# EAGLE library part AUDIOFX&AMP (library audioFX&Amp)
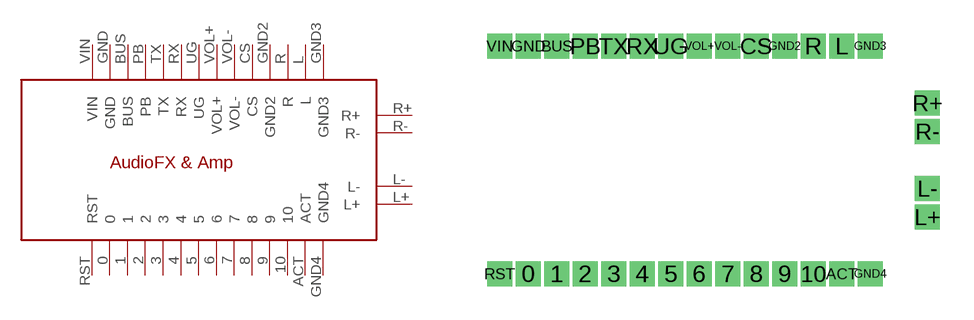
[diagram p0: symbol with the pads of AUDIOFX&AMP; footprint AUDIOFX&AMP]

Designator prefix -

## AUDIOFX&AMP  [AUDIOFX&AMP]
0  0
1  1
2  2
3  3
4  4
5  5
6  6
7  7
8  8
9  9
10  10
ACT  ACT
BUS  BUS
CS  CS
GND  GND
GND2  GND2
GND3  GND3
GND4  GND4
L  L
L+  L+
L-  L-
PB  PB
R  R
R+  R+
R-  R-
RST  RST
RX  RX
TX  TX
UG  UG
VIN  VIN
VOL+  VOL+
VOL-  VOL-

## Footprint AUDIOFX&AMP (pad centres in mm)
drill 0.6 square: 0 1.27,0; 1 2.54,0; 2 3.81,0; 3 5.08,0; 4 6.35,0; 5 7.62,0; 6 8.89,0; 7 10.16,0; 8 11.43,0; 9 12.7,0; 10 13.97,0; ACT 15.24,0; BUS 2.54,10.16; CS 11.43,10.16; GND 1.27,10.16; GND2 12.7,10.16; GND3 16.51,10.16; GND4 16.51,0; L 15.24,10.16; L+ 19.05,2.54; L- 19.05,3.81; PB 3.81,10.16; R 13.97,10.16; R+ 19.05,7.62; R- 19.05,6.35; RST 0,0; RX 6.35,10.16; TX 5.08,10.16; UG 7.62,10.16; VIN 0,10.16; VOL+ 8.89,10.16; VOL- 10.16,10.16